# Altium footprint library PcbLib1.PcbLib: 1 footprints
Each footprint in its own frame and in the unit in brackets; x right, y up, seen from the top. Pads: shape width x height; smd on the part's side, far side on the other; paste and mask are expansions set on the pad; w line width, h text height; cw(c..) or ccw(c..) is an arc to the next point about the centre after c.
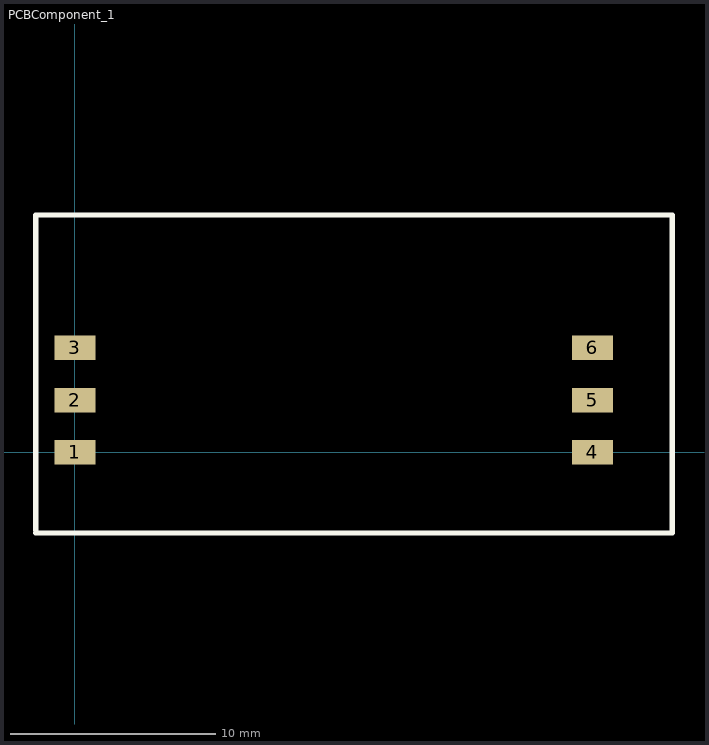
[diagram p0: the footprint, top view; thin cyan lines are the x and y axes]

## PCBComponent_1 [mm]
pads (6):
  rect 2x1.2 smd: 1(0,0) 2(0,2.54) 3(0,5.08) 4(25.2,0) 5(25.2,2.54) 6(25.2,5.08)
Top Overlay:
  lines w0.254: -1.905,-3.937 29.083,-3.937 29.083,11.557 -1.905,11.557 -1.905,3.81 -1.905,-3.81